# Altium schematic symbol library AD8613.Schlib: 1 symbol
Pins are listed as number, name and electrical type; pins without a type are passive.

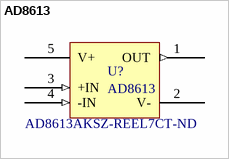
[diagram p0: symbol AD8613]

## AD8613
designator U?  Supplier Part Number 1: AD8613AKSZ-REEL7CT-ND
Low power, low noise rail-to-rail op-amp.; Supplier 1: Digi-Key
footprint SOP65P200X125-5N (SOP + Pitch P + Lead Span Nominal X Height - #Pins)
pins: 1 OUT (out), 2 V- (power), 3 +IN (in), 4 -IN (in), 5 V+ (power)